# EAGLE library part W9825G6KH-6 (library SamacSys_Parts)
The W9825G6KH is a 256M SDRAM and speed involving -5/-5I/-6/-6I/-6J/-6L/-6A/-6K/-75/75J/75L Source: Datasheet <https://www.winbond.com/hq/search-resource-file.jsp?partNo=W9825G6KH-6&type=datasheet>
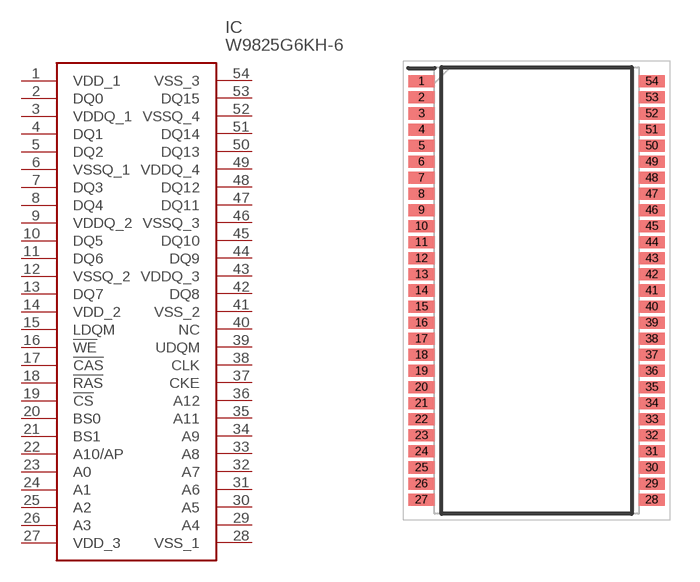
[diagram p130: symbol with the pads of SOP80P1176X120-54N; footprint SOP80P1176X120-54N]

Designator prefix IC

## W9825G6KH-6 (DESCRIPTION: The W9825G6KH is a 256M SDRAM and speed involving -5/-5I/-6/-6I/-6J/-6L/-6A/-6K/-75/75J/75L; HEIGHT: 1.2mm; MANUFACTURER_NAME: Winbond; MANUFACTURER_PART_NUMBER: W9825G6KH-6; MOUSER_PART_NUMBER: 454-W9825G6KH-6; MOUSER_PRICE-STOCK: https://www.mouser.co.uk/ProductDetail/Winbond/W9825G6KH-6?qs=qSfuJ%252Bfl%2Fd4uj%2FIr3zKOng%3D%3D)  [SOP80P1176X120-54N]
1  VDD_1
2  DQ0
3  VDDQ_1
4  DQ1
5  DQ2
6  VSSQ_1
7  DQ3
8  DQ4
9  VDDQ_2
10  DQ5
11  DQ6
12  VSSQ_2
13  DQ7
14  VDD_2
15  LDQM
16  !WE
17  !CAS
18  !RAS
19  !CS
20  BS0
21  BS1
22  A10/AP
23  A0
24  A1
25  A2
26  A3
27  VDD_3
28  VSS_1
29  A4
30  A5
31  A6
32  A7
33  A8
34  A9
35  A11
36  A12
37  CKE
38  CLK
39  UDQM
40  NC  nc
41  VSS_2
42  DQ8
43  VDDQ_3
44  DQ9
45  DQ10
46  VSSQ_3
47  DQ11
48  DQ12
49  VDDQ_4
50  DQ13
51  DQ14
52  VSSQ_4
53  DQ15
54  VSS_3

## Footprint SOP80P1176X120-54N (pad centres in mm)
54-Pin TSOP
smd 1.295 x 0.6: 1 -5.728,10.4; 2 -5.728,9.6; 3 -5.728,8.8; 4 -5.728,8; 5 -5.728,7.2; 6 -5.728,6.4; 7 -5.728,5.6; 8 -5.728,4.8; 9 -5.728,4; 10 -5.728,3.2; 11 -5.728,2.4; 12 -5.728,1.6; 13 -5.728,0.8; 14 -5.728,0; 15 -5.728,-0.8; 16 -5.728,-1.6; 17 -5.728,-2.4; 18 -5.728,-3.2; 19 -5.728,-4; 20 -5.728,-4.8; 21 -5.728,-5.6; 22 -5.728,-6.4; 23 -5.728,-7.2; 24 -5.728,-8; 25 -5.728,-8.8; 26 -5.728,-9.6; 27 -5.728,-10.4; 28 5.728,-10.4; 29 5.728,-9.6; 30 5.728,-8.8; 31 5.728,-8; 32 5.728,-7.2; 33 5.728,-6.4; 34 5.728,-5.6; 35 5.728,-4.8; 36 5.728,-4; 37 5.728,-3.2; 38 5.728,-2.4; 39 5.728,-1.6; 40 5.728,-0.8; 41 5.728,0; 42 5.728,0.8; 43 5.728,1.6; 44 5.728,2.4; 45 5.728,3.2; 46 5.728,4; 47 5.728,4.8; 48 5.728,5.6; 49 5.728,6.4; 50 5.728,7.2; 51 5.728,8; 52 5.728,8.8; 53 5.728,9.6; 54 5.728,10.4